# Altium schematic symbol library MAX9938HEUK+T.SchLib: 1 symbol
Pins are listed as number, name and electrical type; pins without a type are passive.

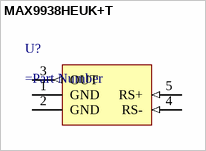
[diagram p0: symbol MAX9938HEUK+T]

## MAX9938HEUK+T
designator U?
=Description
pins: 1 GND (power), 2 GND (power), 3 OUT (out), 4 RS- (in), 5 RS+ (in)